# Altium footprint library Элементы.PcbLib: 5 footprints
Each footprint in its own frame and in the unit in brackets; x right, y up, seen from the top. Pads: shape width x height; smd on the part's side, far side on the other; paste and mask are expansions set on the pad; w line width, h text height; cw(c..) or ccw(c..) is an arc to the next point about the centre after c.
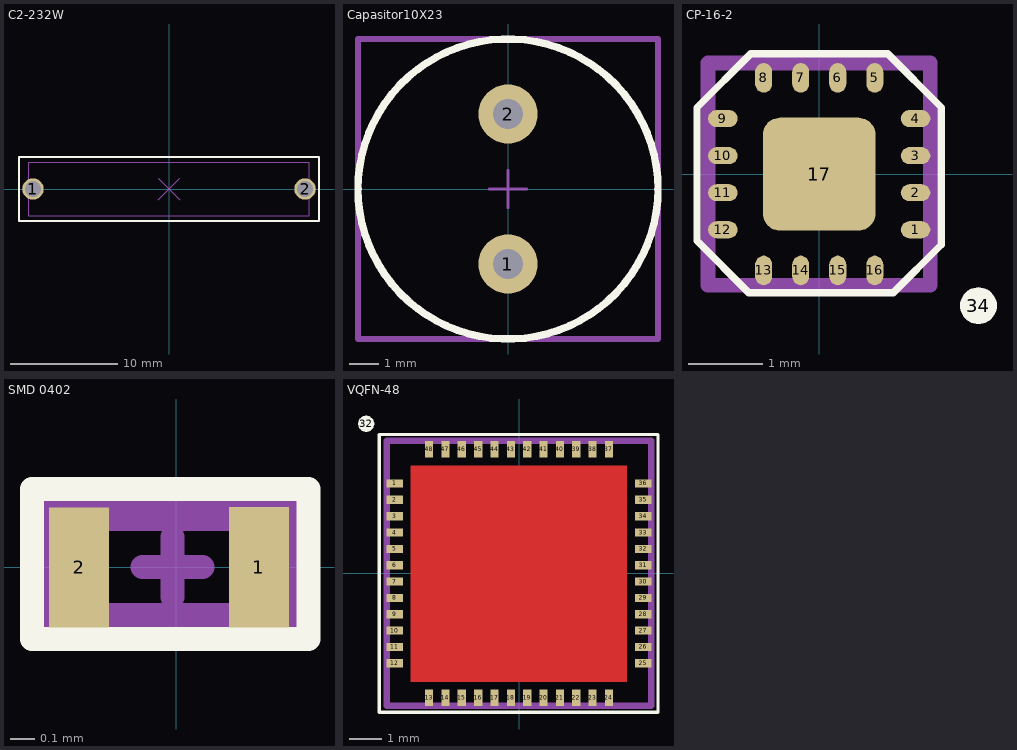
[diagram p0: the footprints below, top view; thin cyan lines are the x and y axes]

## C2-232W [mm]
pads (2):
  round 2 hole 1.5: 1(-12.7,0) 2(12.7,0)
Top Overlay:
  lines w0.2: -14,-3 14,-3 14,3 -14,3 -14,-3
Mechanical 1:
  lines w0.1: -13.1,-2.479 -13.1,2.512 13.1,2.512 13.1,-2.479 -13.1,-2.479
Mechanical 15:
  lines w0.1: -1,-1 1,1 ; -1,1 1,-1 ; -14,-3 -14,3 14,3 14,-3 -14,-3
3D body "резистор.step": height 6.5, standoff -3, extent -13.1,-2.479 13.1,2.512

## Capasitor10X23 [mm]
pads (2):
  round 2 hole 1: 1(0,-2.54) 2(0,2.54)
Top Overlay:
  circle w0.254: c0,0 r5.08
Mechanical 1:
  lines w0.2: -5.08,-5.08 5.08,-5.08 5.08,5.08 -5.08,5.08 -5.08,-5.08
Mechanical 15:
  lines w0.1: -0.635,0 0.635,0 ; 0,-0.635 0,0.635 ; -5.08,-5.08 5.08,-5.08 5.08,5.08 -5.08,5.08 -5.08,-5.08
3D body "User Library-Radial aluminum capasitor (10x23).step": height 23, standoff -1.75, extent -5,-5 5,5

## CP-16-2 [mm]
pads (18):
  rrect100% 0.4x0.23 smd: 1(1.3,-0.75) 2(1.3,-0.25) 3(1.3,0.25) 4(1.3,0.75) 9(-1.3,0.75) 10(-1.3,0.25) 11(-1.3,-0.25) 12(-1.3,-0.75)
  rrect100% 0.23x0.4 smd: 5(0.75,1.3) 6(0.25,1.3) 7(-0.25,1.3) 8(-0.75,1.3) 13(-0.75,-1.3) 14(-0.25,-1.3) 15(0.25,-1.3) 16(0.75,-1.3)
  rrect30% 1.524x1.524 smd: 17(0,0)
  round 0.5 on Top Overlay: 34(2.15,-1.775)
Top Overlay:
  lines w0.1: -1.65,-0.9 -0.95,-1.6 1,-1.6 1.65,-0.95 1.65,0.9 0.925,1.625 -0.925,1.625 -1.65,0.9 -1.65,-0.9
Mechanical 1:
  lines w0.2: -1.5,-1.5 -1.5,1.5 1.5,1.5 1.5,-1.5 -1.5,-1.5
Mechanical 15:
  lines w0.1: -0.5,0 0.5,0 ; 0,-0.5 0,0.5 ; -1.525,-1.525 -1.525,1.525 1.525,1.525 1.525,-1.525 -1.525,-1.525
3D body "User Library-ADCLK925.step": height 0.9, standoff 0, extent -1.52,-1.52 1.52,1.52

## SMD 0402 [mm]
pads (2):
  rect 0.25x0.5 smd: 1(0.343,-0.001) 2(-0.405,-0.002)
Top Overlay:
  lines w0.1: -0.6,-0.3 0.55,-0.3 0.55,0.325 -0.6,0.325 -0.6,-0.3
Mechanical 1:
  lines w0.2: -0.525,-0.25 -0.525,0.25 0.475,0.25 0.475,-0.25 -0.525,-0.25
Mechanical 15:
  lines w0.1: -0.141,0 0.109,0 ; -0.016,-0.125 -0.016,0.125 ; -0.525,-0.25 0.475,-0.25 0.475,0.25 -0.525,0.25 -0.525,-0.25
3D body "User Library-R SMD 0402.STEP": height 0.35, standoff 0, extent -0.532,-0.25 0.468,0.25

## VQFN-48 [mm]
pads (49):
  rect 0.5x0.25 smd: 1(-3.8,2.75) 2(-3.8,2.25) 3(-3.8,1.75) 4(-3.8,1.25) 5(-3.8,0.75) 6(-3.8,0.25) 7(-3.8,-0.25) 8(-3.8,-0.75) 9(-3.8,-1.25) 10(-3.8,-1.75) 11(-3.8,-2.25) 12(-3.8,-2.75) 25(3.8,-2.75) 26(3.8,-2.25) 27(3.8,-1.75) 28(3.8,-1.25) 29(3.8,-0.75) 30(3.8,-0.25) 31(3.8,0.25) 32(3.8,0.75) 33(3.8,1.25) 34(3.8,1.75) 35(3.8,2.25) 36(3.8,2.75)
  rect 0.25x0.5 smd: 13(-2.75,-3.8) 14(-2.25,-3.8) 15(-1.75,-3.8) 16(-1.25,-3.8) 17(-0.75,-3.8) 18(-0.25,-3.8) 19(0.25,-3.8) 20(0.75,-3.8) 21(1.25,-3.8) 22(1.75,-3.8) 23(2.25,-3.8) 24(2.75,-3.8) 37(2.75,3.8) 38(2.25,3.8) 39(1.75,3.8) 40(1.25,3.8) 41(0.75,3.8) 42(0.25,3.8) 43(-0.25,3.8) 44(-0.75,3.8) 45(-1.25,3.8) 46(-1.75,3.8) 47(-2.25,3.8) 48(-2.75,3.8)
  round 0.5 on Top Overlay: 32(-4.675,4.575)
Top Layer:
  rectangle: -3.325,-3.325 3.3,3.3
Top Overlay:
  lines w0.1: -4.275,-4.25 -4.275,4.25 4.25,4.25 4.25,-4.25 -4.275,-4.25
Mechanical 1:
  lines w0.2: -4.05,-4.05 -4.05,4.05 4.05,4.05 4.05,-4.05 -4.05,-4.05
Mechanical 15:
  lines w0.1: -1,0 1,0 ; 0,-1 0,1 ; -4.05,-4.05 4.05,-4.05 4.05,4.05 -4.05,4.05 -4.05,-4.05
3D body "User Library-vqfn48.step": height 0.8, standoff -0.01, extent -4.05,-4.05 4.05,4.05